# Altium schematic symbol library LimeMicroAltiumLib.SchLib: 659 symbols (part 19 of 22)
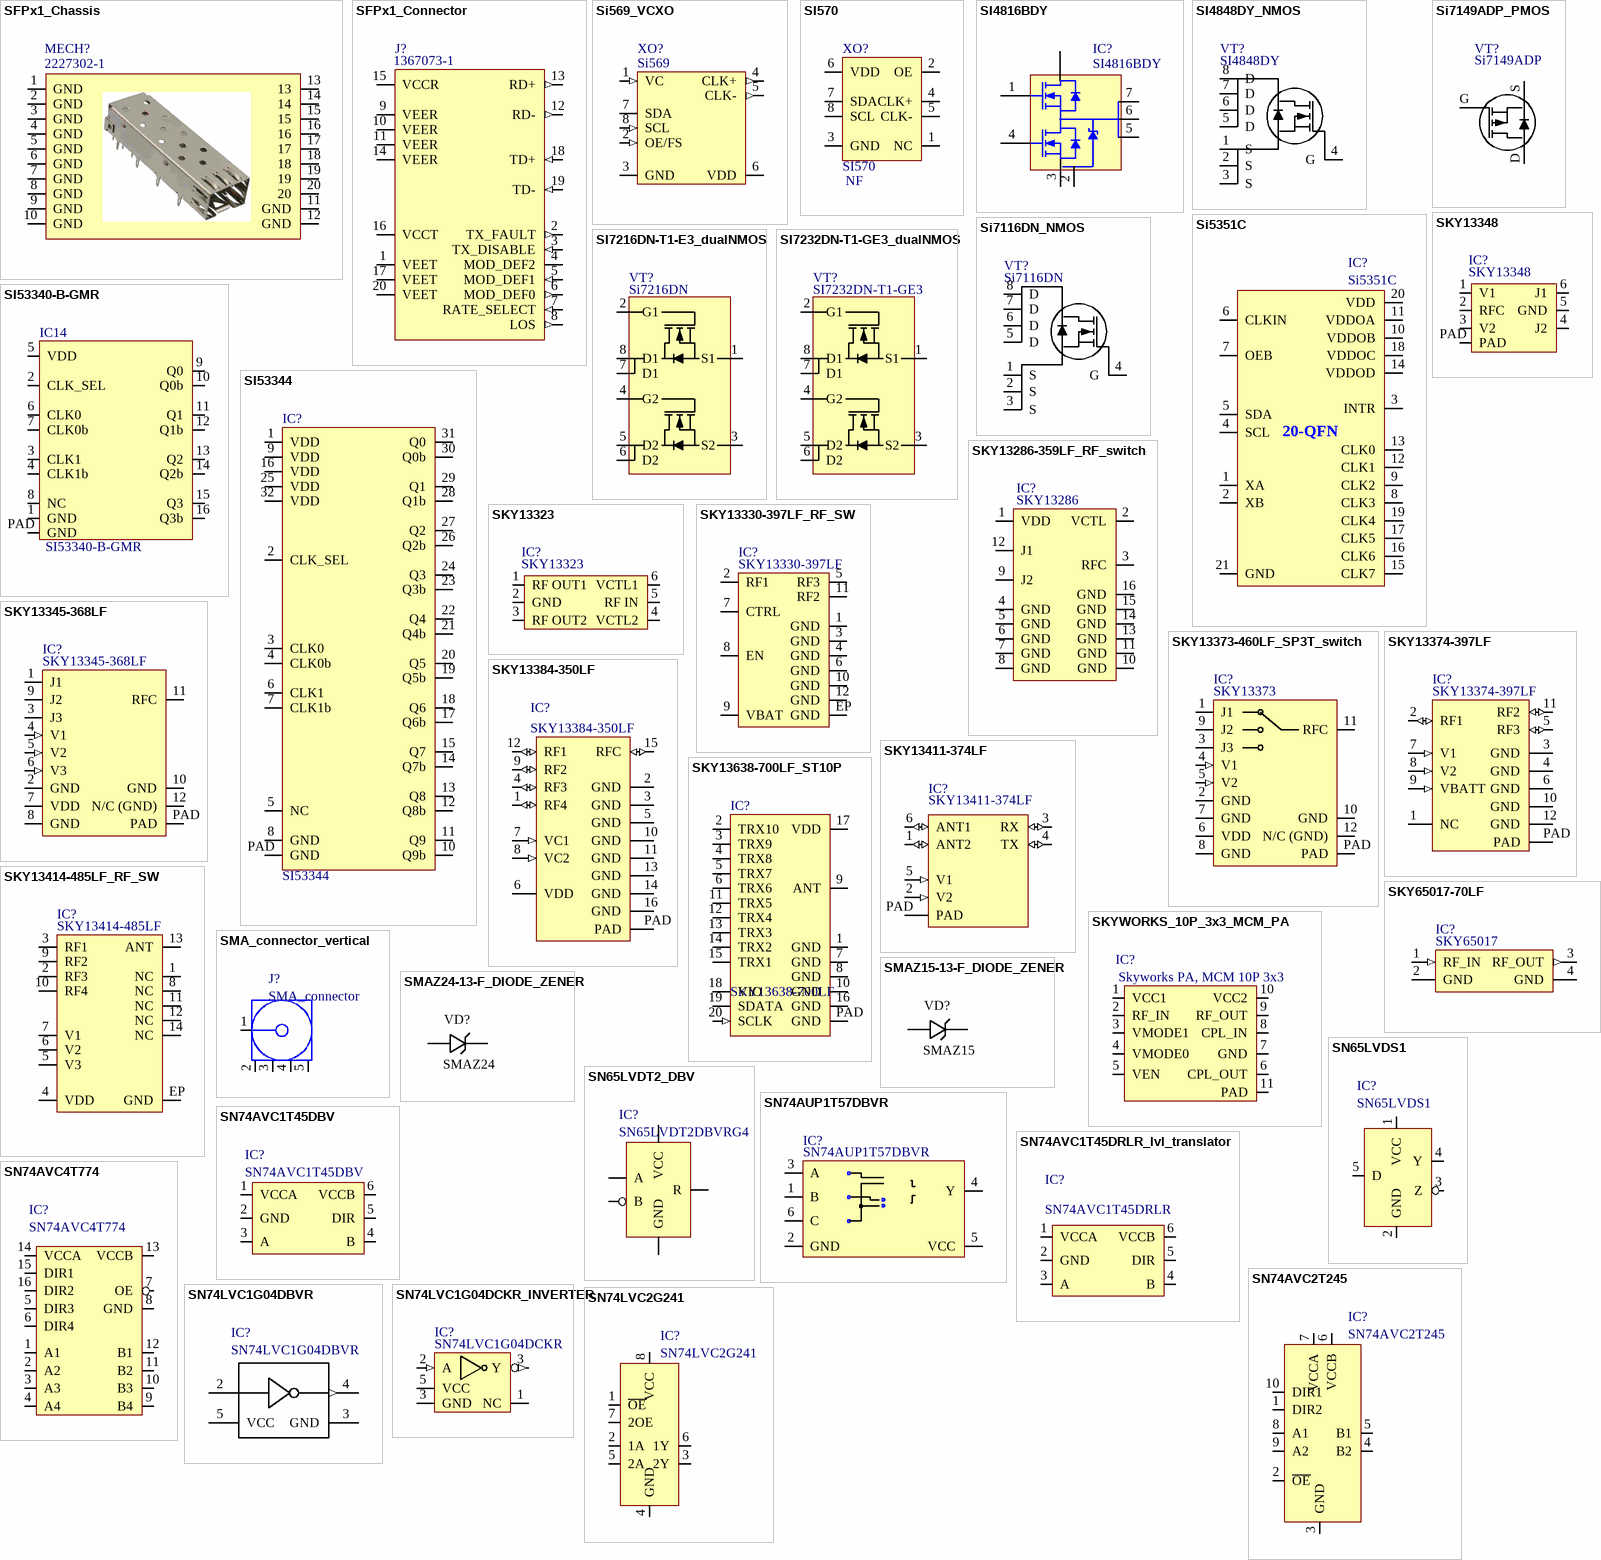
[diagram p96: symbols SFPx1_Chassis to SN74LVC2G241]

## SKY13374-397LF
designator IC?
Manufacturer: Skyworks Solutions Inc.; Part Description: IC SWITCH DPDT LF-6GHZ 12QFN; Frequency - Lower: 300kHz; Isolation @ Frequency: 28dB @ 3GHz (typ); Insertion Loss @ Frequency: 0.5dB @ 3GHz; IIP3: 68dBm (typ); Circuit: SPDT; P1dB: 39dBm (typ) IP1dB; Impedance: 50 Ohm; Voltage - Supply: 2.5 V ~ 4.8 V; RF Type: 802.11a/b/g/n; Supplier 1: Digi-Key; Manufacturer Part Number 1: SKY13374-397LF; RoHS: RoHS Compliant; Category: RF/IF and RFID; Stock 1: 22830; Pricing 1: 1=0.92, 10=0.826, 100=0.6437, 500=0.53172, 1000=0.41978 (USD); Packaging: Cut Tape (CT); Part Status: Active; Topology: -; Features: -; Operating Temperature: -40°C ~ 85°C; Package / Case: 12-UFQFN Exposed Pad; Supplier Device Package: 12-QFN (2x2); ComponentLink1URL: http://www.skyworksinc.com/uploads/documents/SKY13374_397LF_201447K.pdf; ComponentLink1Description: http://www.skyworksinc.com/uploads/documents/SKY13374_397LF_201447K.pdf; Supplier Part Number 1: 863-1523-1-ND
footprint SKY13374-397LF_QFN12 (Footprint not found)
pins: 1 NC, 2 RF1 (io), 3 GND, 4 GND, 5 RF3 (io), 6 GND, 7 V1 (in), 8 V2 (in), 9 VBATT (in), 10 GND, 11 RF2 (io), 12 GND, PAD

## SKY13384-350LF
designator IC?
Manufacturer: Skyworks Solutions Inc.; Part Description: RF Switch IC General Purpose SP4T 50 Ohm 16-QFN (3x3); Frequency - Lower: 20MHz; Isolation @ Frequency: 36dB @ 4GHz (typ); Insertion Loss @ Frequency: 1.2dB @ 4GHz; IIP3: 51dBm (typ); Topology: Absorptive; Circuit: SP4T; P1dB: 30dBm (typ) IP1dB; Impedance: 50 Ohm; Voltage - Supply: 3 V ~ 5 V; RF Type: General Purpose; Supplier 1: Digi-Key; Manufacturer Part Number 1: SKY13384-350LF; RoHS: RoHS Compliant; Category: RF/IF and RFID; Stock 1: 34816; Pricing 1: 1=4.67, 10=4.194, 100=3.4364, 500=2.92538, 1000=2.46719 (USD); Packaging: Cut Tape (CT); Part Status: Active; Features: -; Operating Temperature: -40°C ~ 85°C; Package / Case: 16-WFQFN Exposed Pad; Supplier Device Package: 16-QFN (3x3); ComponentLink1URL: http://www.skyworksinc.com/uploads/documents/SKY13384_350LF_201529C.pdf; ComponentLink1Description: http://www.skyworksinc.com/uploads/documents/SKY13384_350LF_201529C.pdf; Supplier Part Number 1: 863-1456-1-ND
footprint SKY13384-350LF_QFN16
pins: 1 RF4 (io), 2 GND, 3 GND, 4 RF3 (io), 5 GND, 6 VDD (power), 7 VC1 (in), 8 VC2 (in), 9 RF2 (io), 10 GND, 11 GND, 12 RF1 (io), 13 GND, 14 GND, 15 RFC (io), 16 GND, PAD

## SKY13411-374LF
designator IC?
Manufacturer: Skyworks Solutions Inc.; Part Description: RF Switch IC 802.11a/b/g/n DPDT 50 Ohm 6-MLPD (1.5x1.5); Frequency - Lower: 100MHz; Isolation @ Frequency: 14dB @ 6GHz (typ); Insertion Loss @ Frequency: 0.9dB @ 6GHz; IIP3: 50dBm (typ); Topology: Reflective; Circuit: DPDT; P1dB: 30dBm (typ) IP1dB; Impedance: 50 Ohm; RF Type: 802.11a/b/g/n; Supplier 1: Digi-Key; Manufacturer Part Number 1: SKY13411-374LF; RoHS: RoHS Compliant; Category: RF/IF and RFID; Stock 1: 18782; Pricing 1: 1=0.88, 10=0.782, 100=0.6099, 500=0.50382, 1000=0.39776 (USD); Packaging: Cut Tape (CT); Part Status: Active; Features: -; Operating Temperature: -40°C ~ 85°C; Voltage - Supply: -; Package / Case: 6-XFDFN Exposed Pad; Supplier Device Package: 6-MLPD (1.5x1.5); ComponentLink1URL: http://www.skyworksinc.com/uploads/documents/201665B.pdf; ComponentLink1Description: http://www.skyworksinc.com/uploads/documents/201665B.pdf; Supplier Part Number 1: 863-1455-1-ND
footprint SKY13411-374LF
pins: 1 ANT2 (io), 2 V2 (in), 3 RX (io), 4 TX (io), 5 V1 (in), 6 ANT1 (io), PAD

## SKY13414-485LF_RF_SW
designator IC?, comment SKY13414-485LF
Part Description: RF Switch IC General Purpose SP4T 3 GHz 50Ohm 14-QFN (2x2); Manufacturer: Skyworks Solutions; P1dB: 37dBm; Impedance: 50R; Throw Configuration: SP4T; IIP3: 70dBm; Supplier 1: Digi-Key; Supplier Part Number 1: 863-1582-1-ND; Manufacturer Part Number 1: SKY13414-485LF; Stock 1: 43522; Pricing 1: 1=1,35000, 10=1,20700, 25=1,14520, 100=0,94070, 250=0,87936, 500=0,77710, 1000=0,61350 (USD); RoHS: Yes; Case/Package: QFN; Min Operating Temperature: -40°C; Max Operating Temperature: 85°C; Packaging: Tape and Reel; Package Quantity: 3000; RoHS Compliant: Yes; ComponentLink1URL: https://datasheet.ciiva.com/15309/sky13414-485lf-201689g-231640-15309794.pdf?src-supplier=Mouser; ComponentLink1Description: https://datasheet.ciiva.com/15309/sky13414-485lf-201689g-231640-15309794.pdf?src-supplier=Mouser
footprint SKY13414-485LF_RF_SW_QFN14
pins: 1 NC, 2 RF3, 3 RF1, 4 VDD (power), 5 V3 (power), 6 V2 (power), 7 V1 (power), 8 NC, 9 RF2, 10 RF4, 11 NC, 12 NC, 13 ANT, 14 NC, EP GND (power)

## SKY13638-700LF_ST10P
designator IC?, comment SKY13638-700LF
Manufacturer: Skyworks Solutions; Part Description: MIPI SP10T LTE Tx/Rx; Value: SKY13638-700LF; Supplier 1: Digikey; Manufacturer Part Number 1: SKY13638-700LF; Stock 1: 9838; Pricing 1: 1=4,02, 10=2,589, 25=2,2152, 100=1,7923, 250=1,5846, 500=1,45684, 1000=1,34983 (USD); RoHS: No; ComponentLink1URL: http://www.skyworksinc.com/uploads/documents/SKY13638_700LF_204813A_PS.pdf?src-supplier=Digikey; ComponentLink1Description: http://www.skyworksinc.com/uploads/documents/SKY13638_700LF_204813A_PS.pdf?src-supplier=Digikey; Supplier Part Number 1: 863-2058-1-ND
footprint SKY13638-700LF (QFN, 20-Leads, Body 4,00x4,00mm, Pitch 0,50mm, Thermal Pad 2,70x2,70mm, IPC Medium Density)
pins: 1 GND, 2 TRX10 (io), 3 TRX9 (io), 4 TRX8 (io), 5 TRX7 (io), 6 TRX6 (io), 7 GND, 8 GND, 9 ANT (io), 10 GND, 11 TRX5 (io), 12 TRX4 (io), 13 TRX3 (io), 14 TRX2 (io), 15 TRX1 (io), 16 GND, 17 VDD, 18 VIO, 19 SDATA (io), 20 SCLK (in), PAD GND

## SKY65017-70LF
designator IC?, comment SKY65017
Manufacturer: Skyworks Solutions Inc.; Manufacturer Part Number 1: SKY65017-70LF; Part Description: RF Amplifier IC DBS, HLAN, WLAN 0.1Hz ~ 6GHz SOT-89-3; Frequency: 0.1Hz ~ 6GHz; P1dB: 20dBm (100mW); Gain: 20dB; Noise Figure: 5dB; RF Type: DBS, HLAN, WLAN; Voltage - Supply: 4.5 V ~ 5.5 V; Current - Supply: 120mA; Test Frequency: 2GHz; Supplier 1: Digi-Key; RoHS: RoHS Compliant; Category: RF/IF and RFID; Stock 1: 9533; Pricing 1: 1=3, 10=2.683, 25=2.4144, 100=2.1999, 250=1.98524, 500=1.78134 (USD); Packaging: Cut Tape (CT); Part Status: Active; Package / Case: TO-243AA; Supplier Device Package: SOT-89-3; ComponentLink1URL: http://www.skyworksinc.com/uploads/documents/SKY65017_70LF_200528G.pdf; ComponentLink1Description: http://www.skyworksinc.com/uploads/documents/SKY65017_70LF_200528G.pdf; Supplier Part Number 1: 863-1063-1-ND
footprint SKY65017-70LF_SOT89 (Footprint not found)
pins: 1 RF_IN (in), 2 GND, 3 RF_OUT (out), 4 GND

## SKYWORKS_10P_3x3_MCM_PA
designator IC?, comment Skyworks PA, MCM 10P 3x3
footprint SKYWORKS_10PIN_MCM_3x3
pins: 1 VCC1 (power), 2 RF_IN (in), 3 VMODE1 (in), 4 VMODE0 (in), 5 VEN (in), 6 CPL_OUT (out), 7 GND, 8 CPL_IN (in), 9 RF_OUT (out), 10 VCC2 (power), 11 PAD

## SMA_connector_vertical
designator J?, comment SMA_connector
Supplier 1: Farnell; Supplier Part Number 1: 1206013
footprint SMA_connector_vertical
pins: 1 RF, 2 GND, 3 GND, 4 GND, 5 GND

## SMAZ15-13-F_DIODE_ZENER
designator VD?, comment SMAZ15
Part Description: Zener Diode 15V 1W ±5% Surface Mount SMA; Manufacturer Part Number 1: SMAZ15-13-F; Manufacturer: Diodes Incorporated; Supplier Part Number 1: SMAZ15-FDICT-ND; Supplier 1: Digi-Key
footprint SMAZ15-13-F_DIODE_ZENER_DO-214AC
pins: A, K

## SMAZ24-13-F_DIODE_ZENER
designator VD?, comment SMAZ24
Part Description: Zener Diode 24V 1W ±5% Surface Mount SMA; Manufacturer Part Number 1: SMAZ24-13-F; Manufacturer: Diodes Incorporated; Supplier Part Number 1: SMAZ24-FDICT-ND; Supplier 1: Digi-Key
footprint SMAZ15-13-F_DIODE_ZENER_DO-214AC
pins: A, K

## SN65LVDS1
designator IC?
Manufacturer: TEXAS INSTRUMENTS; Manufacturer Part Number 1: SN65LVDS1DBVR; Supply Voltage Min: 2.4; Supply Voltage Max: 3.6; No. of Pins: 5; Driver Case Style: SOT-23; Supplier 1: Newark; Supplier Part Number 1: 76C0715
footprint SOT23-5
pins: 1 VCC, 2 GND, 3 Z, 4 Y, 5 D

## SN65LVDT2_DBV
designator IC?, comment SN65LVDT2DBVRG4
Manufacturer: Texas Instruments; Voltage - Supply: 2.4 V ~ 3.6 V; Number of Drivers/Receivers: 0/1; Data Rate: 400Mbps; Protocol: LVDS; Supplier 1: Digi-Key; Category: Integrated Circuits (ICs); Type: Receiver; Manufacturer Part Number 1: SN65LVDT2DBVRG4; Packaging: Tape & Reel (TR); RoHS: RoHS Compliant; Supplier Device Package: SOT-23-5; Package / Case: SC-74A, SOT-753; Mounting Type: Surface Mount; Operating Temperature: -40°C ~ 85°C; Receiver Hysteresis: -; Duplex: -; Supplier Part Number 1: SN65LVDT2DBVRG4-ND
footprint SOT23-5
pins: 1 VCC, 2 GND, 3 A, 4 B, 5 R

## SN74AUP1T57DBVR
designator IC?
Manufacturer: Texas Instruments; Part Description: Voltage Level Translator Unidirectional 1 Circuit 1 Channel  SOT-23-6; Logic Function: Translator; Low Level Output Current: 4mA; High Level Output Current: -4mA; Quiescent Current: 500nA; Propagation Delay: 3.8ns; Max Supply Voltage: 3.6V; Min Supply Voltage: 2.3V; Number of Channels: 3; Number of Bits: 1; Turn-On Delay Time: 10ns; Nominal Supply Current: 900nA; Output Type: Voltage; Supplier 1: Digi-Key; Manufacturer Part Number 1: SN74AUP1T57DBVR; Stock 1: 7961; Pricing 1: 1 = 0,51000, 10 = 0,44000, 100 = 0,32880, 500 = 0,25832, 1000 = 0,19961 (USD); RoHS: Yes; Mount: Surface Mount; Case/Package: SOT-23; Number of Pins: 6; Weight: 0.000229oz; Min Operating Temperature: -40°C; Max Operating Temperature: 85°C; Packaging: Tape and Reel; Output Current: 4mA; Package Quantity: 1; Number of Outputs: 1; Number of Inputs: 3; Radiation Hardening: No; Lead Free: Lead Free; REACH SVHC: No SVHC; ComponentLink1URL: https://datasheet.ciiva.com/1508/1775223-1508800.pdf?src-supplier=Element14; ComponentLink1Description: https://datasheet.ciiva.com/1508/1775223-1508800.pdf?src-supplier=Element14; ComponentLink2URL: https://datasheet.ciiva.com/15096/getdatasheetpartid-293621-15096261.pdf?src-supplier=Verical; ComponentLink2Description: https://datasheet.ciiva.com/15096/getdatasheetpartid-293621-15096261.pdf?src-supplier=Verical; ComponentLink3URL: https://datasheet.ciiva.com/1899/sn74aup1t57-1899465.pdf?src-supplier=Digi-Key; ComponentLink3Description: https://datasheet.ciiva.com/1899/sn74aup1t57-1899465.pdf?src-supplier=Digi-Key; ComponentLink4URL: https://datasheet.ciiva.com/1899/sn74aup1t57-1899466.pdf?src-supplier=Digi-Key; ComponentLink4Description: https://datasheet.ciiva.com/1899/sn74aup1t57-1899466.pdf?src-supplier=Digi-Key; ComponentLink5URL: https://datasheet.ciiva.com/1899/sn74aup1t57-1899467.pdf?src-supplier=Digi-Key; ComponentLink5Description: https://datasheet.ciiva.com/1899/sn74aup1t57-1899467.pdf?src-supplier=Digi-Key; ComponentLink6URL: https://datasheet.ciiva.com/14287/sn74aup1t57-14287935.pdf?src-supplier=Avnet; ComponentLink6Description: https://datasheet.ciiva.com/14287/sn74aup1t57-14287935.pdf?src-supplier=Avnet; Supplier Part Number 1: 296-17524-1-ND
footprint SOT23-6
pins: 1 B, 2 GND, 3 A, 4 Y, 5 VCC (power), 6 C

## SN74AVC1T45DBV
designator IC?
Manufacturer: Texas Instruments; Data Rate: 500Mbps; Voltage - Supply: 1.2 V ~ 3.6 V; Supplier 1: Digi-Key; Category: Integrated Circuits (ICs); Package / Case: SOT-23-6; Supplier Part Number: 296-19094-1-ND
footprint SOT23-6
pins: 1 VCCA (power), 2 GND, 3 A (io), 4 B (io), 5 DIR (in), 6 VCCB (power)

## SN74AVC1T45DRLR_lvl_translator
designator IC?, comment SN74AVC1T45DRLR
Part Description: Voltage Level Translator Bidirectional 1 Circuit 1 Channel 500Mbps SOT-5X3; Manufacturer: Texas Instruments; Supplier 1: Digi-Key; Supplier Part Number 1: 296-21022-1-ND; Manufacturer Part Number 1: SN74AVC1T45DRLR; Stock 1: 46610; Pricing 1: 1=0,68, 10=0,6, 25=0,5636, 100=0,46, 250=0,42724, 500=0,3636, 1000=0,29088 (USD); RoHS: Yes; Length: 1.6mm; Width: 1.2mm; Height: 600um; Thickness: 550um; ComponentLink1URL: https://datasheet.ciiva.com/1629/sn74avc1t45-1629536.pdf?src-supplier=Newark; ComponentLink1Description: https://datasheet.ciiva.com/1629/sn74avc1t45-1629536.pdf?src-supplier=Newark; ComponentLink2URL: https://datasheet.ciiva.com/15086/getdatasheetpartid-223729-15086386.pdf?src-supplier=Verical; ComponentLink2Description: https://datasheet.ciiva.com/15086/getdatasheetpartid-223729-15086386.pdf?src-supplier=Verical; ComponentLink3URL: https://datasheet.ciiva.com/14287/sn74avc1t45-14287328.pdf?src-supplier=Avnet; ComponentLink3Description: https://datasheet.ciiva.com/14287/sn74avc1t45-14287328.pdf?src-supplier=Avnet; ComponentLink4URL: https://datasheet.ciiva.com/22729/1862374-22729941.pdf?src-supplier=Element14; ComponentLink4Description: https://datasheet.ciiva.com/22729/1862374-22729941.pdf?src-supplier=Element14; ComponentLink5URL: https://datasheet.ciiva.com/46385/1887534-46385799.pdf?src-supplier=Element14; ComponentLink5Description: https://datasheet.ciiva.com/46385/1887534-46385799.pdf?src-supplier=Element14; ComponentLink6URL: https://datasheet.ciiva.com/14287/sn74avc1t45-14287479.pdf?src-supplier=Avnet; ComponentLink6Description: https://datasheet.ciiva.com/14287/sn74avc1t45-14287479.pdf?src-supplier=Avnet; ComponentLink7URL: https://datasheet.ciiva.com/1899/sn74avc1t45-1899278.pdf?src-supplier=Digi-Key; ComponentLink7Description: https://datasheet.ciiva.com/1899/sn74avc1t45-1899278.pdf?src-supplier=Digi-Key; ComponentLink8URL: https://datasheet.ciiva.com/1899/sn74avc1t45-1899279.pdf?src-supplier=Digi-Key; ComponentLink8Description: https://datasheet.ciiva.com/1899/sn74avc1t45-1899279.pdf?src-supplier=Digi-Key; ComponentLink9URL: https://datasheet.ciiva.com/1899/sn74avc1t45-1899280.pdf?src-supplier=Digi-Key; ComponentLink9Description: https://datasheet.ciiva.com/1899/sn74avc1t45-1899280.pdf?src-supplier=Digi-Key
footprint SN74AVC1T45DRLR_SOT-5X3
pins: 1 VCCA (power), 2 GND, 3 A (io), 4 B (io), 5 DIR (in), 6 VCCB (power)

## SN74AVC2T245
designator IC?
Input Type: Logic; Logic Function: Translator, Bidirectional, 3-State; Data Rate: 500Mbps; Propagation Delay (Max): 2.4ns; Voltage - Supply: 1.2 V ~ 3.6 V; Supplier 1: Digi-Key; Category: Integrated Circuits (ICs); Supplier Device Package: 10-UQFN (1.8x1.4); Package / Case: 10-UFQFN; Supplier Part Number: 296-23684-1-ND
footprint SN74AVC2T245RSWR (PQFN, 10-Leads, Body 1,80x1,40mm, Pitch 0,40mm, IPC Medium Density)
pins: 1 DIR2, 2 ~{OE}, 3 GND, 4 B2, 5 B1, 6 VCCB, 7 VCCA, 8 A1, 9 A2, 10 DIR1

## SN74AVC4T774
designator IC?
Manufacturer: Texas Instruments; Manufacturer Part Number 1: SN74AVC4T774RSVR; Logic Function: Translator, Bidirectional, 3-State; Differential - Input:Output: No/No; Propagation Delay (Max): 2.4ns; Number of Bits: 4; Number of Outputs/Channel: 1; Input Type: Logic; Voltage - Supply: 1.2 V ~ 3.6 V; Data Rate: 380Mbps; Supplier 1: Digi-Key; Supplier Device Package: 16-UQFN (2.6x1.8); Packaging: Digi-Reel®; Category: Integrated Circuits (ICs); Mounting Type: Surface Mount; RoHS: RoHS Compliant; Number of Channels: 4; Output Type: Logic; Package / Case: 16-UFQFN; Operating Temperature: -40°C ~ 85°C; Supplier Part Number 1: 296-24741-6-ND
footprint SN74AVC4T774 (PQFN, 16-Leads, Body 2,60x1,80mm, Pitch 0,40mm, IPC Medium Density)
pins: 1 A1, 2 A2, 3 A3, 4 A4, 5 DIR3, 6 DIR4, 7 OE, 8 GND, 9 B4, 10 B3, 11 B2, 12 B1, 13 VCCB, 14 VCCA, 15 DIR1, 16 DIR2

## SN74LVC1G04DBVR
designator IC?
Manufacturer: Texas Instruments; Number of Inputs: 1; Voltage - Supply: 1.65 V ~ 5.5 V; Current - Quiescent (Max): 10µA; Current - Output High, Low: 32mA, 32mA; Max Propagation Delay @ V, Max CL: 3.7ns @ 5V, 50pF; Logic Level - High: 1.7 V ~ 2 V; Logic Level - Low: 0.7 V ~ 0.8 V; Logic Type: Inverter; Supplier 1: Digi-Key; RoHS: RoHS Compliant; Number of Circuits: 1; Mounting Type: Surface Mount; Supplier Device Package: SOT-23-5; Manufacturer Part Number 1: SN74LVC1G04DBVR; Operating Temperature: -40°C ~ 125°C; Packaging: Digi-Reel®; Features: -; Package / Case: SC-74A, SOT-753; Category: Integrated Circuits (ICs); Supplier Part Number 1: 296-11599-6-ND
footprint SOT23-5
pins: 2 A, 3 GND (power), 4 Y (out), 5 VCC (power)

## SN74LVC1G04DCKR_INVERTER
designator IC?, comment SN74LVC1G04DCKR
Manufacturer: Texas Instruments; Part Description: IC INVERTER 1CH 1-INP SC70-5; Logic Function: Buffer; Number of Elements: 1; Max Output Current: 32mA; Min Supply Voltage: 1.65V; Max Supply Voltage: 5.5V; Propagation Delay: 3.7ns; Quiescent Current: 10uA; High Level Output Current: -32mA; Turn-On Delay Time: 7.5ns; Schmitt Trigger Input: No; Supplier 1: Digi-Key; Manufacturer Part Number 1: SN74LVC1G04DCKR; Stock 1: 107004; Pricing 1: 1 = 0,43000, 10 = 0,32000, 100 = 0,19960, 500 = 0,13658, 1000 = 0,10506 (USD); RoHS: Yes; Mount: Surface Mount; Case/Package: SC; Number of Pins: 5; Weight: 8.8E-05oz; Min Operating Temperature: -40°C; Max Operating Temperature: 125°C; Output Current: 32mA; Number of Inputs: 1; Packaging: Tape and Reel; Package Quantity: 1; Number of Circuits: 1; Low Level Output Current: 32mA; Termination: SMD/SMT; Number of Gates: 1; Number of Bits: 1; Length: 2.15mm; Height: 1mm; Width: 1.4mm; Radiation Hardening: No; REACH SVHC: No SVHC; Lead Free: Lead Free; ComponentLink1URL: https://datasheet.ciiva.com/7783/1740531-7783427.pdf?src-supplier=Element14; ComponentLink1Description: https://datasheet.ciiva.com/7783/1740531-7783427.pdf?src-supplier=Element14; ComponentLink2URL: https://datasheet.ciiva.com/34301/918241-34301765.pdf?src-supplier=Jameco; ComponentLink2Description: https://datasheet.ciiva.com/34301/918241-34301765.pdf?src-supplier=Jameco; ComponentLink3URL: https://datasheet.ciiva.com/15089/getdatasheetpartid-190001-15089352.pdf?src-supplier=Verical; ComponentLink3Description: https://datasheet.ciiva.com/15089/getdatasheetpartid-190001-15089352.pdf?src-supplier=Verical; ComponentLink4URL: https://datasheet.ciiva.com/46384/1887466-46384379.pdf?src-supplier=Element14; ComponentLink4Description: https://datasheet.ciiva.com/46384/1887466-46384379.pdf?src-supplier=Element14; ComponentLink5URL: https://datasheet.ciiva.com/1864/sn74lvc1g04-1864156.pdf?src-supplier=Digi-Key; ComponentLink5Description: https://datasheet.ciiva.com/1864/sn74lvc1g04-1864156.pdf?src-supplier=Digi-Key; ComponentLink6URL: https://datasheet.ciiva.com/1864/sn74lvc1g04-1864157.pdf?src-supplier=Digi-Key; ComponentLink6Description: https://datasheet.ciiva.com/1864/sn74lvc1g04-1864157.pdf?src-supplier=Digi-Key; ComponentLink7URL: https://datasheet.ciiva.com/1864/sn74lvc1g04-1864155.pdf?src-supplier=Digi-Key; ComponentLink7Description: https://datasheet.ciiva.com/1864/sn74lvc1g04-1864155.pdf?src-supplier=Digi-Key; ComponentLink8URL: https://datasheet.ciiva.com/26044/sn74lvc1g04-26044125.pdf?src-supplier=Avnet+Europe; ComponentLink8Description: https://datasheet.ciiva.com/26044/sn74lvc1g04-26044125.pdf?src-supplier=Avnet+Europe; ComponentLink9URL: https://datasheet.ciiva.com/14290/sn74lvc1g04-14290303.pdf?src-supplier=Avnet; ComponentLink9Description: https://datasheet.ciiva.com/14290/sn74lvc1g04-14290303.pdf?src-supplier=Avnet; ComponentLink10URL: https://datasheet.ciiva.com/48703/001074510-da-01-en-ic-single-in-sn74lvc1g04dckr-sc-70-5-tid-48703803.pdf?src-supplier=Conrad; ComponentLink10Description: https://datasheet.ciiva.com/48703/001074510-da-01-en-ic-single-in-sn74lvc1g04dckr-sc-70-5-tid-48703803.pdf?src-supplier=Conrad; Supplier Part Number 1: 296-11600-1-ND
footprint SC-70-5_SN74LVC1G04DCKR (SC-70 (SOT323), 5 pin)
pins: 1 NC, 2 A (in), 3 Y (out), 3 GND, 5 VCC

## SN74LVC2G241
designator IC?
Logic Type: Buffer/Line Driver, Non-Inverting; Current - Output High, Low: 32mA, 32mA; Voltage - Supply: 1.65 V ~ 5.5 V; Supplier 1: Digi-Key; Package / Case: 8-LSSOP (0.11", 2.80mm Width); Category: Integrated Circuits (ICs); Mounting Type: Surface Mount; Supplier Part Number: 296-11935-1-ND
footprint SN74LVC2G241 (TSOP, 8-Leads, Body 2,95x2,80mm, Pitch 0,65mm, IPC Medium Density)
pins: 1 ~{OE}, 2 1A, 3 2Y, 4 GND, 5 2A, 6 1Y, 7 2OE, 8 VCC

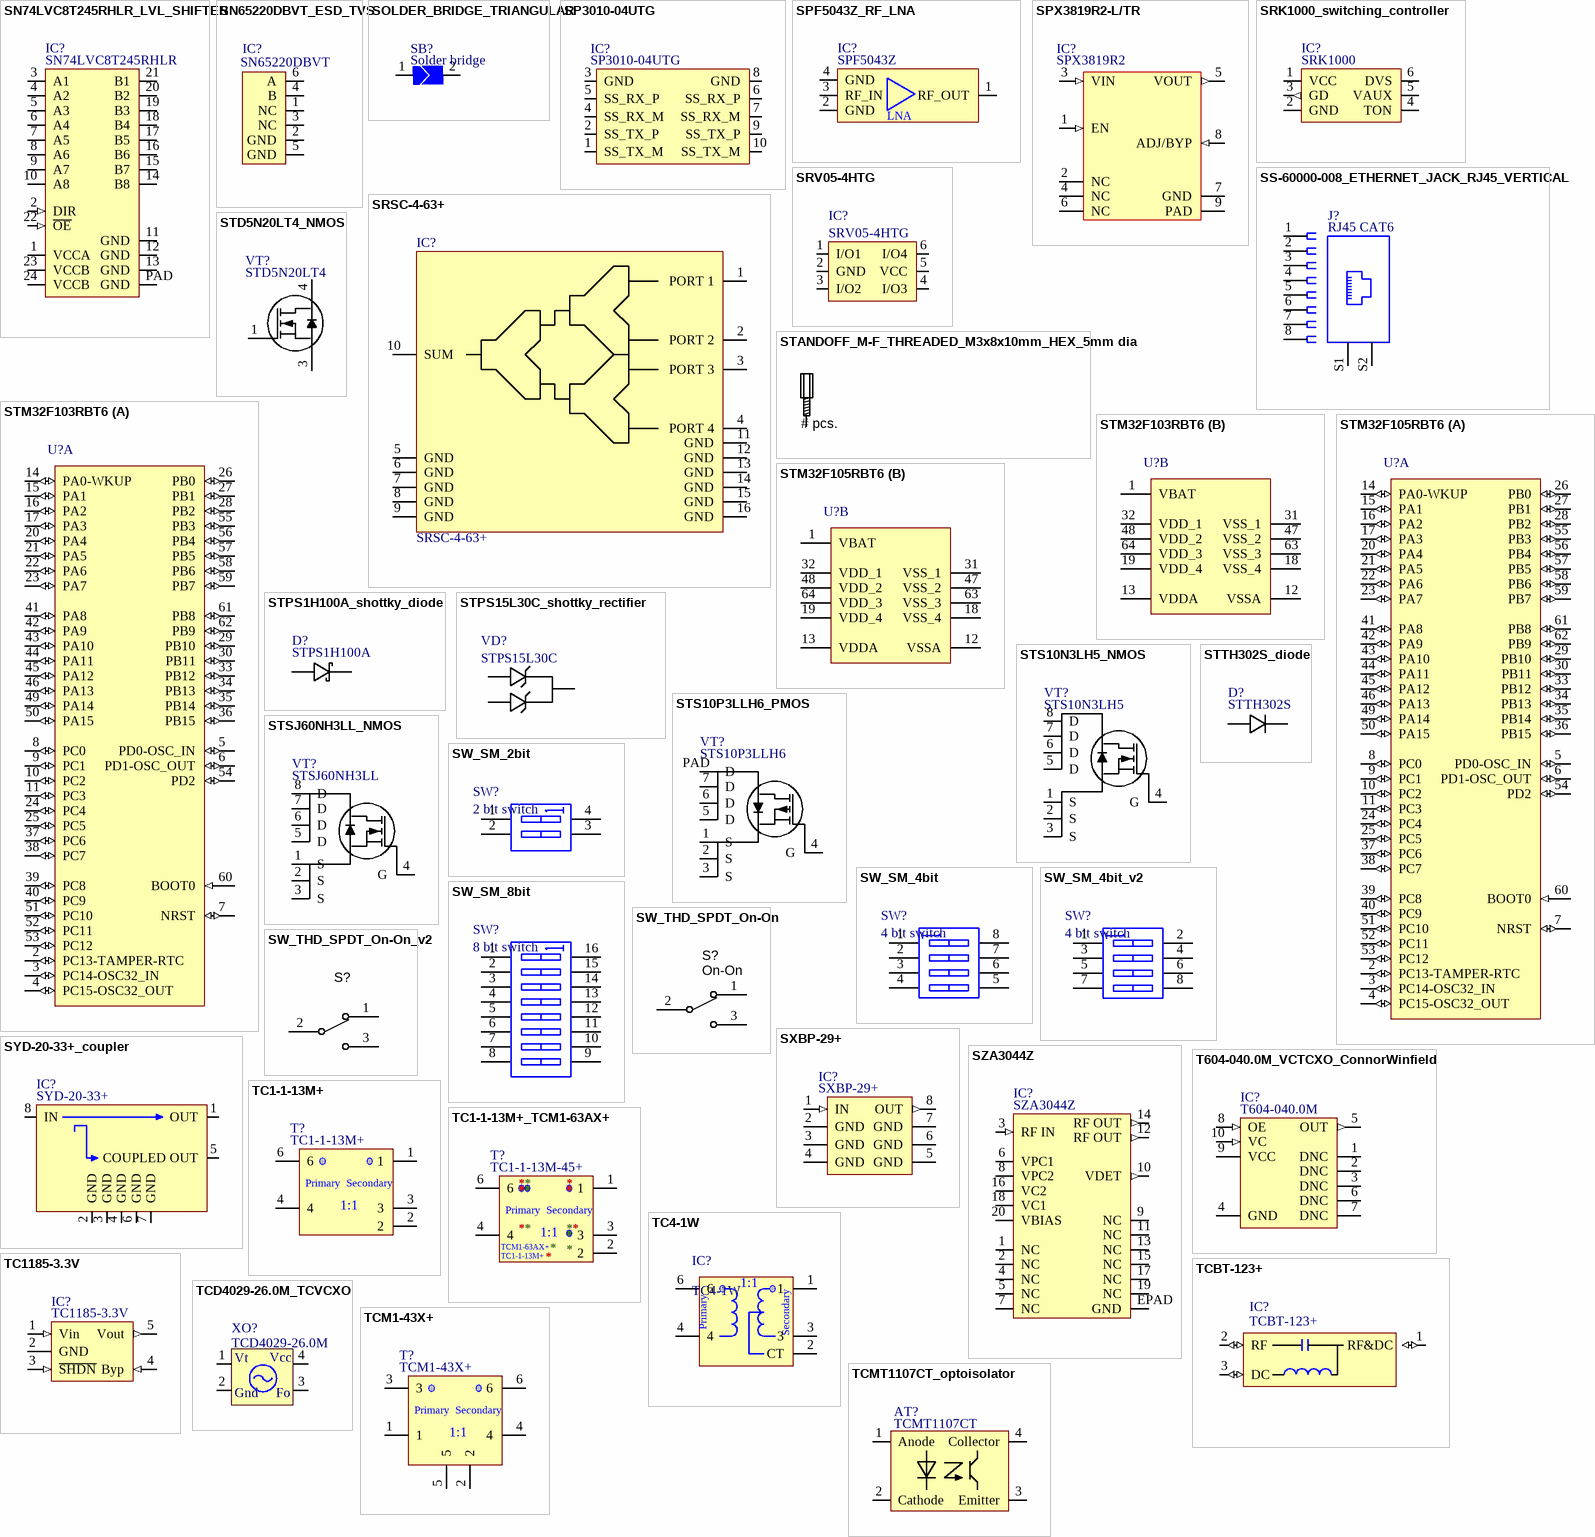
[diagram p67: symbols SN74LVC8T245RHLR_LVL_SHIFTER to TCMT1107CT_optoisolator]

## SN74LVC8T245RHLR_LVL_SHIFTER
designator IC?, comment SN74LVC8T245RHLR
Manufacturer: Texas Instruments; Part Description: Voltage Level Translator Bidirectional 1 Circuit 8 Channel  24-VQFN (5.5x3.5); Direction: Bidirectional; Number of Elements: 1; Propagation Delay: 4.3ns; Max Supply Voltage: 5.5V; Min Supply Voltage: 1.65V; Number of Inputs: 8; Output Current: 32mA; Logic Function: Translator; Turn-On Delay Time: 4.2ns; Data Rate: 500Mbps; Polarity: Non-Inverting; High Level Output Current: -32mA; Quiescent Current: 15uA; Supplier 1: Digi-Key; Manufacturer Part Number 1: SN74LVC8T245RHLR; Stock 1: 27446; Pricing 1: 1=1,38000, 10=1,23700, 100=0,96420, 500=0,79650 (USD); RoHS: Yes; Mount: Surface Mount; Case/Package: VQFN; Number of Pins: 24; Weight: 0.001767oz; Contact Plating: Gold; Min Operating Temperature: -40°C; Max Operating Temperature: 85°C; Packaging: Tape and Reel; Package Quantity: 1; Number of Channels: 8; Number of Bits: 8; Low Level Output Current: 32mA; Number of Outputs: 8; Nominal Supply Current: 15uA; Length: 5.65mm; Height: 0.95mm; Width: 3.65mm; Radiation Hardening: No; REACH SVHC: No SVHC; Lead Free: Lead Free; ComponentLink1URL: https://datasheet.ciiva.com/14315/sces584a-14315712.pdf?src-supplier=Farnell; ComponentLink1Description: https://datasheet.ciiva.com/14315/sces584a-14315712.pdf?src-supplier=Farnell; ComponentLink2URL: https://datasheet.ciiva.com/1628/sn74lvc8t245-1628896.pdf?src-supplier=Newark; ComponentLink2Description: https://datasheet.ciiva.com/1628/sn74lvc8t245-1628896.pdf?src-supplier=Newark; ComponentLink3URL: https://datasheet.ciiva.com/15086/getdatasheetpartid-245666-15086422.pdf?src-supplier=Verical; ComponentLink3Description: https://datasheet.ciiva.com/15086/getdatasheetpartid-245666-15086422.pdf?src-supplier=Verical; ComponentLink4URL: https://datasheet.ciiva.com/1508/1882283-1508817.pdf?src-supplier=Element14; ComponentLink4Description: https://datasheet.ciiva.com/1508/1882283-1508817.pdf?src-supplier=Element14; ComponentLink5URL: https://datasheet.ciiva.com/1508/1831204-1508707.pdf?src-supplier=Element14; ComponentLink5Description: https://datasheet.ciiva.com/1508/1831204-1508707.pdf?src-supplier=Element14; ComponentLink6URL: https://datasheet.ciiva.com/1899/sn74lvc8t245-1899443.pdf?src-supplier=Digi-Key; ComponentLink6Description: https://datasheet.ciiva.com/1899/sn74lvc8t245-1899443.pdf?src-supplier=Digi-Key; ComponentLink7URL: https://datasheet.ciiva.com/1899/sn74lvc8t245-1899445.pdf?src-supplier=Digi-Key; ComponentLink7Description: https://datasheet.ciiva.com/1899/sn74lvc8t245-1899445.pdf?src-supplier=Digi-Key; ComponentLink8URL: https://datasheet.ciiva.com/1508/1831204-1508706.pdf?src-supplier=Element14; ComponentLink8Description: https://datasheet.ciiva.com/1508/1831204-1508706.pdf?src-supplier=Element14; ComponentLink9URL: https://datasheet.ciiva.com/1899/sn74lvc8t245-1899444.pdf?src-supplier=Digi-Key; ComponentLink9Description: https://datasheet.ciiva.com/1899/sn74lvc8t245-1899444.pdf?src-supplier=Digi-Key; ComponentLink10URL: https://datasheet.ciiva.com/14298/sn74lvc8t245-14298297.pdf?src-supplier=Avnet; ComponentLink10Description: https://datasheet.ciiva.com/14298/sn74lvc8t245-14298297.pdf?src-supplier=Avnet; ComponentLink11URL: https://datasheet.ciiva.com/14298/sn74lvc8t245-14298299.pdf?src-supplier=Avnet; ComponentLink11Description: https://datasheet.ciiva.com/14298/sn74lvc8t245-14298299.pdf?src-supplier=Avnet; ComponentLink12URL: https://datasheet.ciiva.com/46395/1882283-46395885.pdf?src-supplier=Element14; ComponentLink12Description: https://datasheet.ciiva.com/46395/1882283-46395885.pdf?src-supplier=Element14; ComponentLink13URL: https://datasheet.ciiva.com/25970/sn74lvc8t245-25970223.pdf?src-supplier=Avnet+Europe; ComponentLink13Description: https://datasheet.ciiva.com/25970/sn74lvc8t245-25970223.pdf?src-supplier=Avnet+Europe; ComponentLink14URL: https://datasheet.ciiva.com/48703/001073805-da-01-en-ic-bus-trans-sn74lvc8t245rhlr-qfn-24-tid-48703067.pdf?src-supplier=Conrad; ComponentLink14Description: https://datasheet.ciiva.com/48703/001073805-da-01-en-ic-bus-trans-sn74lvc8t245rhlr-qfn-24-tid-48703067.pdf?src-supplier=Conrad; Supplier Part Number 1: 296-18595-1-ND
footprint SN74LVC8T245RHLR_24-VQFN_LVL_SHIFTER
pins: 1 VCCA (power), 2 DIR (in), 3 A1 (io), 4 A2 (io), 5 A3 (io), 6 A4 (io), 7 A5 (io), 8 A6 (io), 9 A7 (io), 10 A8 (io), 11 GND, 12 GND, 13 GND, 14 B8 (io), 15 B7 (io), 16 B6 (io), 17 B5 (io), 18 B4 (io), 19 B3 (io), 20 B2 (io), 21 B1 (io), 22 ~{OE} (in), 23 VCCB (power), 24 VCCB (power), PAD GND

## SN65220DBVT_ESD_TVS
designator IC?, comment SN65220DBVT
Part Description: ESD Suppressors / TVS Diodes Single USB Port; Manufacturer: Texas Instruments; Operating Supply Voltage: 6V; Capacitance: 35pF; Max Surge Current: 3A; Element Configuration: Single; Clamping Voltage: 7V; Number of Circuits: 1; Polarity: Unidirectional; Number of Channels: 2; Max Power Dissipation: 60W; Leakage Current: 1uA; Interface: USB; Max Breakdown Voltage: 8V; Current Rating: 1A; Power Dissipation: 385mW; Supplier 1: Digi-Key; Supplier Part Number 1: 296-2341-1-ND; Manufacturer Part Number 1: SN65220DBVT; Stock 1: 0; RoHS: Yes; Case/Package: SOT-23; Number of Pins: 6; Weight: 0.000473oz; Contact Plating: Gold; Min Operating Temperature: -40°C; Max Operating Temperature: 85°C; Packaging: Tape and Reel; Package Quantity: 250; Working Voltage: 6V; Breakdown Voltage: 7V; Termination: SMD/SMT; Min Breakdown Voltage: 7V; Length: 2.9mm; Width: 1.6mm; Height: 1.15mm; Depth: 1.75mm; Radiation Hardening: No; Lead Free: Lead Free; RoHS Compliant: Yes; REACH SVHC: No SVHC; ComponentLink1URL: https://datasheet.ciiva.com/1219/sn65240-1219728.pdf?src-supplier=Newark; ComponentLink1Description: https://datasheet.ciiva.com/1219/sn65240-1219728.pdf?src-supplier=Newark; ComponentLink2URL: https://datasheet.ciiva.com/361/sn75240-361335.pdf?src-supplier=Digi-Key; ComponentLink2Description: https://datasheet.ciiva.com/361/sn75240-361335.pdf?src-supplier=Digi-Key; ComponentLink3URL: https://datasheet.ciiva.com/361/sn75240-361334.pdf?src-supplier=Digi-Key; ComponentLink3Description: https://datasheet.ciiva.com/361/sn75240-361334.pdf?src-supplier=Digi-Key; ComponentLink4URL: https://datasheet.ciiva.com/361/sn75240-361336.pdf?src-supplier=Digi-Key; ComponentLink4Description: https://datasheet.ciiva.com/361/sn75240-361336.pdf?src-supplier=Digi-Key; ComponentLink5URL: https://datasheet.ciiva.com/7659/1847490-7659962.pdf?src-supplier=Element14; ComponentLink5Description: https://datasheet.ciiva.com/7659/1847490-7659962.pdf?src-supplier=Element14; ComponentLink6URL: https://datasheet.ciiva.com/14423/sn65240-14423674.pdf?src-supplier=Avnet; ComponentLink6Description: https://datasheet.ciiva.com/14423/sn65240-14423674.pdf?src-supplier=Avnet; ComponentLink7URL: https://datasheet.ciiva.com/14423/sn65240-14423725.pdf?src-supplier=Avnet; ComponentLink7Description: https://datasheet.ciiva.com/14423/sn65240-14423725.pdf?src-supplier=Avnet
footprint SOT23-6
pins: 1 NC, 2 GND (power), 3 NC, 4 B, 5 GND (power), 6 A

## SOLDER_BRIDGE_TRIANGULAR
designator SB?, comment Solder bridge
Can be shorted out using solder paste or 0402-1206 resistor; Part Description: *
footprint SOLDER_BRIDGE_TRIANGULAR
pins: 1, 2

## SP3010-04UTG
designator IC?
Manufacturer: Littelfuse Inc; Supplier 1: Digi-Key; Supplier: Digi-Key; Category: Circuit Protection; Supplier Device Package: 10-µDFN (2.5x1.0); Supplier Part Number: F3507TR-ND
pins: 1 SS_TX_M, 2 SS_TX_P, 3 GND, 4 SS_RX_M, 5 SS_RX_P, 6 SS_RX_P, 7 SS_RX_M, 8 GND, 9 SS_TX_P, 10 SS_TX_M

## SPF5043Z_RF_LNA
designator IC?, comment SPF5043Z
Part Description: RF Amplifier .05-4GHz SSG 12.9dB NF .8dB GaAs; Manufacturer: Qorvo; Supplier 1: Mouser; Supplier Part Number 1: 772-SPF5043Z; Manufacturer Part Number 1: SPF5043Z; Stock 1: 151851; Pricing 1: 1=3,68000, 10=3,68000, 50=2,67000, 100=2,17000, 1000=1,20000, 10000=1,06000 (USD); RoHS: Yes; RoHS Compliant: Yes
footprint SPF5043Z_SOT-343
pins: 1 RF_OUT, 2 GND, 3 RF_IN, 4 GND
text: LNA

## SPX3819R2-L/TR
designator IC?, comment SPX3819R2
Manufacturer: Exar Corporation; Manufacturer Part Number 1: SPX3819R2-L/TR; Part Description: Linear Voltage Regulator IC Positive Adjustable 1 Output Adjustable 500mA 8-DFN (2x3); Regulator Topology: Positive Adjustable; Voltage - Output: Adjustable; Current - Output: 500mA; Voltage - Dropout (Typical): 0.34V @ 500mA; Number of Regulators: 1; Voltage - Input: 2.5 V ~ 16 V; Supplier 1: Digi-Key; RoHS: RoHS Compliant; Category: Integrated Circuits (ICs); Stock 1: 18339; Pricing 1: 1=0.98, 10=0.855, 25=0.7556, 100=0.6586, 250=0.57328, 500=0.48802, 1000=0.39089 (USD); Packaging: Cut Tape (CT); Part Status: Active; Current - Limit (Min): -; Operating Temperature: -40°C ~ 125°C; Mounting Type: Surface Mount; Package / Case: 8-VFDFN Exposed Pad; Supplier Device Package: 8-DFN (2x3); ComponentLink1URL: https://www.exar.com/content/document.ashx?id=615; ComponentLink1Description: https://www.exar.com/content/document.ashx?id=615; Supplier Part Number 1: 1016-1588-1-ND
footprint SPX3819R2-L/TR
pins: 1 EN (in), 2 NC, 3 VIN (in), 4 NC, 5 VOUT (out), 6 NC, 7 GND, 8 ADJ/BYP (in), 9 PAD

## SRK1000_switching_controller
designator IC?, comment SRK1000
Manufacturer: STMicroelectronics; Part Description: Switching Controllers Adaptive synchronous rectification controller for flyback converter; Operating Supply Current: 17mA; Supplier 1: Mouser; Supplier Part Number 1: 511-SRK1000; Manufacturer Part Number 1: SRK1000; Stock 1: 1537; Pricing 1: 1=0,93000, 10=0,83300, 50=0,79000, 100=0,64900, 1000=0,42600, 10000=0,42500 (USD); RoHS: Yes; Mount: Surface Mount; Case/Package: SOT-23-6; Min Operating Temperature: -40°C; Max Operating Temperature: 150°C; Packaging: Tape and Reel; RoHS Compliant: Yes
footprint SOT23-6
pins: 1 VCC (power), 2 GND (power), 3 GD (out), 4 TON, 5 VAUX, 6 DVS

## SRSC-4-63+
designator IC?
Power Splitter/Combiner: 4 Way-0° Resistive 50Ω DC to 6000 MHz; Manufacturer: Mini-Circuits; Part Description: Power Splitter/Combiner: 4 Way-0° Resistive 50Ω DC to 6000 MHz; Supplier 1: Mini-Circuits; Manufacturer Part Number 1: SRSC-4-63+; Supplier Part Number 1: SRSC-4-63+
footprint SRSC-4-63+_CK1704-2
pins: 1 PORT 1, 2 PORT 2, 3 PORT 3, 4 PORT 4, 5 GND, 6 GND, 7 GND, 8 GND, 9 GND, 10 SUM, 11 GND, 12 GND, 13 GND, 14 GND, 15 GND, 16 GND

## SRV05-4HTG
designator IC?
Manufacturer: Littelfuse Inc; Voltage - Reverse Standoff (Typ): 6V (Max); Voltage - Clamping (Max) @ Ipp: 15V; Current - Peak Pulse (10/1000µs): 10A (8/20µs); Supplier 1: Digi-Key; Category: Circuit Protection; Package / Case: SOT-23-6; Supplier Part Number 1: F4204TR-ND
footprint SOT23-6
pins: 1 I/O1, 2 GND, 3 I/O2, 4 I/O3, 5 VCC, 6 I/O4

## SS-60000-008_ETHERNET_JACK_RJ45_VERTICAL
designator J?, comment RJ45 CAT6
Modular Jack | CAT6 | Vertical _180_ | 8P 8C | NF Shielded; Part Description: Jack Modular Connector 8p8c (RJ45, Ethernet) Vertical Shielded Cat6; Manufacturer: Bel; Manufacturer Part Number 1: SS-60000-008; Connector Type: Jack,Socket,RJ45; Number of Ports: 1; Direction: User Selectable; Number of Contacts: 8; Gender: Female; Pitch: 2.03mm; Value: *; Supplier 1: Digi-Key; Supplier Part Number 1: 380-1095-ND; Stock 1: 3380; Pricing 1: 1=3,33000, 10=3,19400, 25=2,92840, 50=2,79520, 100=2,66200, 250=2,32924, 500=2,26270, 1000=1,92995, 2500=1,79685 (USD); RoHS: Yes; Mount: Through Hole,Cable; Contact Material: Copper Alloy; Housing Material: Thermoplastic; Contact Plating: Gold; Material: Thermoplastic; Termination: Solder; Packaging: Tray; Package Quantity: 80; Number of Rows: 1; Shielding: Shielded; Orientation: Straight; Number of Positions: 8; Length: 17.02mm; Width: 16.26mm; Depth: 17.02mm; Lead Free: Lead Free; Flammability Rating: UL94 V-0; REACH SVHC: No SVHC; ComponentLink1URL: https://datasheet.ciiva.com/685/ct600008-685714.pdf?src-supplier=Avnet; ComponentLink1Description: https://datasheet.ciiva.com/685/ct600008-685714.pdf?src-supplier=Avnet; ComponentLink2URL: https://datasheet.ciiva.com/685/ct600008-685714.pdf?src-supplier=Digi-Key; ComponentLink2Description: https://datasheet.ciiva.com/685/ct600008-685714.pdf?src-supplier=Digi-Key; ComponentLink3URL: https://datasheet.ciiva.com/1478/34920-1478385.pdf?src-supplier=Newark; ComponentLink3Description: https://datasheet.ciiva.com/1478/34920-1478385.pdf?src-supplier=Newark; ComponentLink4URL: https://datasheet.ciiva.com/11726/0900766b80b1ed76-11726134.pdf?src-supplier=RSComponents; ComponentLink4Description: https://datasheet.ciiva.com/11726/0900766b80b1ed76-11726134.pdf?src-supplier=RSComponents; ComponentLink5URL: https://datasheet.ciiva.com/14118/ss-60000-008-eng-tds-14118902.pdf?src-supplier=Distrelec; ComponentLink5Description: https://datasheet.ciiva.com/14118/ss-60000-008-eng-tds-14118902.pdf?src-supplier=Distrelec
footprint SS-60000-008_RJ45
pins: 1, 2, 3, 4, 5, 6, 7, 8, S1 P$1, S2 P$2

## STANDOFF_M-F_THREADED_M3x8x10mm_HEX_5mm dia
designator MECH?, comment # pcs.
STANDOFF M/F MET 5MM HEX 10MM L; Manufacturer 1: Keystone Electronics; Manufacturer Part Number 1: 24313; Thread/Screw/Hole Size: M3 Thread; Plating: Nickel; Between Board Height: 0.394" (10.0mm); SCDType: undef; RoHS: RoHS Compliant; Description 1: STANDOFF M/F MET 5MM HEX 10MM L; Category: Hardware Fasteners Accessories; Stock 1: 240; Pricing 1: 10=0.969, 100=0.881, 500=0.58, 1000=0.3685, 2500=0.34215 (USD); Type: Hex Threaded, Male/Female; Size: 0.197" (5.0mm) Hex; Length - Overall: 0.709" (18.0mm); Material: Brass; Color: Natural; ComponentLink1URL: http://www.keyelco.com/pdfs/M55p67.pdf; ComponentLink1Description: http://www.keyelco.com/pdfs/M55p67.pdf; Supplier 1: Digi-Key; Supplier Part Number 1: 24313K-ND
footprint PCB_standoff
pins: MH1

## STD5N20LT4_NMOS
designator VT?, comment STD5N20LT4
Manufacturer: STMicroelectronics; Part Description: N-Channel 200V 5A (Tc) 33W (Tc) Surface Mount DPAK; Nominal Vgs: 2.5V; Rise Time: 21.5ns; Rds On Max: 700mR; Input Capacitance: 242pF; Number of Elements: 1; Max Power Dissipation: 33W; Dual Supply Voltage: 200V; Continuous Drain Current (ID): 5A; Fall Time: 15.5ns; Drain to Source Resistance: 650mR; Turn-Off Delay Time: 14ns; Turn-On Delay Time: 11.5ns; Element Configuration: Single; Gate to Source Voltage (Vgs): 20V; Supplier 1: Digi-Key; Manufacturer Part Number 1: STD5N20LT4; Stock 1: 3027; Pricing 1: 1=1.17, 10=1.033, 100=0.8161, 500=0.6329, 1000=0.49965 (USD); Mount: Surface Mount; Case/Package: DPAK; Number of Pins: 3; Min Operating Temperature: -55°C; Max Operating Temperature: 150°C; Packaging: Tape and Reel; Package Quantity: 2500; Drain to Source Voltage (Vdss): 200V; Drain to Source Breakdown Voltage: 200V; Power Dissipation: 33W; On-State Resistance: 700mR; Threshold Voltage: 2.5V; Termination: SMD/SMT; Voltage Rating (DC): 200V; Current Rating: 5A; Length: 6.6mm; Height: 2.4mm; Width: 6.2mm; Radiation Hardening: No; REACH SVHC: No SVHC; Lead Free: Lead Free; ComponentLink1URL: http://www.farnell.com/datasheets/1689960.pdf; ComponentLink1Description: http://www.farnell.com/datasheets/1689960.pdf; ComponentLink2URL: http://www.st.com/content/ccc/resource/technical/document/datasheet/group2/51/4c/d5/e5/c6/ef/43/17/CD00043538/files/CD00043538.pdf/jcr:content/translations/en.CD00043538.pdf; ComponentLink2Description: http://www.st.com/content/ccc/resource/technical/document/datasheet/group2/51/4c/d5/e5/c6/ef/43/17/CD00043538/files/CD00043538.pdf/jcr:content/translations/en.CD00043538.pdf; ComponentLink3URL: http://www.st.com/web/en/resource/technical/document/datasheet/CD00043538.pdf; ComponentLink3Description: http://www.st.com/web/en/resource/technical/document/datasheet/CD00043538.pdf; Supplier Part Number 1: 497-4335-6-ND
footprint STD5N20LT4_NMOS_DPAK (D-PAK/TO-263-3; 3 Leads (1 Cropped); Body 14.7 (inc. leads) x 10.2 mm (LxW max))
pins: 1 G, 3 S, 4 D

## STM32F103RBT6
designator U?
ARM Cortex-M3 32-bit MCU, 128 KB Flash, 20 KB Internal RAM, 51 I/Os, 64-pin LQFP, -40 to 85 degC, Tray; PartNumber: STM32F103RBT6; A/D Converter: 2x12-bit (16 Channel); FLASH Size (Prog) (kB): 128; I/Os (High Current): 51; Internal RAM Size (kB): 20; Operating Frequency(F) (Processor speed) (MHz): 72; Supply Voltage(Vcc) min (V): 2; DatasheetVersion: Rev. 16; PackageVersion: Rev. 4, 06/2013; PackageReference: LQFP64; PackageDescription: 64-Pin Low Profile Quad Flat Package, 10 x 10 mm Body, 0.5 mm Pitch; Supplier 1: Digi-Key; Supplier Part Number 1: 497-6066-ND; Supplier 2: Farnell; Supplier Part Number 2: 1447640; Supplier 3: Newark; Supplier Part Number 3: 59M2183; Supplier 4: Newark; Supplier Part Number 4: 57P1224; Supplier 5: Mouser; Supplier Part Number 5: 511-STM32F103RBT6; Core: ARM Cortex-M3; Packing: Tray; Mounting Technology: Surface Mount; ComponentLink1Description: Manufacturer URL; ComponentLink1URL: http://www.st.com/web/en/home.html; ComponentLink2Description: Datasheet; ComponentLink2URL: http://www.st.com/st-web-ui/static/active/en/resource/technical/document/datasheet/CD00161566.pdf; ComponentLink3Description: Package Specification; ComponentLink3URL: http://www.st.com/st-web-ui/static/active/en/resource/technical/document/datasheet/DM00037051.pdf
footprint STM-LQFP64_N (Thin QFP, 64-Leads, Body 10x10mm, Pitch 0.5mm, IPC Medium Density)
part A pins: 2 PC13-TAMPER-RTC (io) "PC13-TAMPER-RTC/PC13/TAMPER-RTC", 3 PC14-OSC32_IN (io) "PC14-OSC32_IN/PC14/OSC32_IN", 4 PC15-OSC32_OUT (io) "PC15-OSC32_OUT/PC15/OSC32_OUT", 5 PD0-OSC_IN (io) "PD0/OSC_IN", 6 PD1-OSC_OUT (io) "PD1/OSC_OUT", 7 NRST (io), 8 PC0 (io) "PC0/ADC12_IN10", 9 PC1 (io) "PC1/ADC12_IN11", 10 PC2 (io) "PC2/ADC12_IN12", 11 PC3 (io) "PC3/ADC12_IN13", 14 PA0-WKUP (io) "PA0-WKUP/PA0/WKUP/USART2_CTS/ADC12_IN0/TIM2_CH1_ETR", 15 PA1 (io) "PA1/USART2_RTS/ADC12_IN1/TIM2_CH2", 16 PA2 (io) "PA2/USART2_TX/ADC12_IN2/TIM2_CH3", 17 PA3 (io) "PA3/USART2_RX/ADC12_IN3/TIM2_CH4", 20 PA4 (io) "PA4/SPI1_NSS/USART2_CK/ADC12_IN4", 21 PA5 (io) "PA5/SPI1_SCK/ADC12_IN5", 22 PA6 (io) "PA6/SPI1_MISO/ADC12_IN6/TIM3_CH1/TIM1_BKIN", 23 PA7 (io) "PA7/SPI1_MOSI/ADC12_IN7/TIM3_CH2/TIM1_CH1N", 24 PC4 (io) "PC4/ADC12_IN14", 25 PC5 (io) "PC5/ADC12_IN15", 26 PB0 (io) "PB0/ADC12_IN8/TIM3_CH3/TIM1_CH2N", 27 PB1 (io) "PB1/ADC12_IN9/TIM3_CH4/TIM1_CH3N", 28 PB2 (io) "PB2/BOOT1", 29 PB10 (io) "PB10/I2C2_SCL/USART3_TX/TIM2_CH3", 30 PB11 (io) "PB11/I2C2_SDA/USART3_RX/TIM2_CH4", 33 PB12 (io) "PB12/SPI2_NSS/I2C2_SMBAl/USART3_CK/TIM1_BKIN", 34 PB13 (io) "PB13/SPI2_SCK/USART3_CTS/TIM1_CH1N", 35 PB14 (io) "PB14/SPI2_MISO/USART3_RTS/TIM1_CH2N", 36 PB15 (io) "PB15/SPI2_MOSI/TIM1_CH3N", 37 PC6 (io) "PC6/TIM3_CH1", 38 PC7 (io) "PC7/TIM3_CH2", 39 PC8 (io) "PC8/TIM3_CH3", 40 PC9 (io) "PC9/TIM3_CH4", 41 PA8 (io) "PA8/USART1_CK/TIM1_CH1/MCO", 42 PA9 (io) "PA9/USART1_TX/TIM1_CH2", 43 PA10 (io) "PA10/USART1_RX/TIM1_CH3", 44 PA11 (io) "PA11/USART1_CTS/CANRX/USBDM/TIM1_CH4", 45 PA12 (io) "PA12/USART1_RTS/CANTX/USBDP/TIM1_ETR", 46 PA13 (io) "PA13/JTMS/SWDIO", 49 PA14 (io) "PA14/JTCK/SWCLK", 50 PA15 (io) "PA15/JTDI/TIM2_CH1_ETR/SPI1_NSS", 51 PC10 (io) "PC10/USART3_TX", 52 PC11 (io) "PC11/USART3_RX", 53 PC12 (io) "PC12/USART3_CK", 54 PD2 (io) "PD2/TIM3_ETR", 55 PB3 (io) "PB3/JTDO/TIM2_CH2/TRACESWO/SPI1_SCK", 56 PB4 (io) "PB4/NJTRST/TIM3_CH1/SPI1_MISO", 57 PB5 (io) "PB5/I2C1_SMBAI/TIM3_CH2/SPI1_MOSI", 58 PB6 (io) "PB6/I2C1_SCL/TIM4_CH1/USART1_TX", 59 PB7 (io) "PB7/I2C1_SDA/TIM4_CH2/USART1_RX", 60 BOOT0 (in), 61 PB8 (io) "PB8/TIM4_CH3/I2C1_SCL/CANRX", 62 PB9 (io) "PB9/TIM4_CH4/I2C1_SDA/CANTX"
part B pins: 1 VBAT (power), 12 VSSA (power), 13 VDDA (power), 18 VSS_4 (power), 19 VDD_4 (power), 31 VSS_1 (power), 32 VDD_1 (power), 47 VSS_2 (power), 48 VDD_2 (power), 63 VSS_3 (power), 64 VDD_3 (power)

## STM32F105RBT6
designator U?
ARM Cortex-M3 32-bit MCU, 128 KB Flash, 64 KB Internal RAM, 51 I/Os, 64-pin LQFP, -40 to 85 degC, Tray; PartNumber: STM32F105RBT6; A/D Converter: 2x12-bit (16 Channel); D/A Converter: 2x12-bit (2 Channel); FLASH Size (Prog) (kB): 128; I/Os (High Current): 51; Internal RAM Size (kB): 64; Operating Frequency(F) (Processor speed) (MHz): 72; Supply Voltage(Vcc) min (V): 2; DatasheetVersion: Rev. 6; PackageVersion: Rev. 4, 06/2013; PackageReference: LQFP64; PackageDescription: 64-Pin Low Profile Quad Flat Package, 10 x 10 mm Body, 0.5 mm Pitch; Supplier 1: Digi-Key; Supplier Part Number 1: 497-8920-ND; Supplier 2: Farnell; Supplier Part Number 2: 1737133; Supplier 3: Newark; Supplier Part Number 3: 52R2326; Supplier 4: Newark; Supplier Part Number 4: 25R9437; Supplier 5: Mouser; Supplier Part Number 5: 511-STM32F105RBT6; Core: ARM Cortex-M3; Packing: Tray; Mounting Technology: Surface Mount; ComponentLink1Description: Manufacturer URL; ComponentLink1URL: http://www.st.com/web/en/home.html; ComponentLink2Description: Datasheet; ComponentLink2URL: http://www.st.com/st-web-ui/static/active/en/resource/technical/document/datasheet/CD00220364.pdf; ComponentLink3Description: Package Specification; ComponentLink3URL: http://www.st.com/st-web-ui/static/active/en/resource/technical/document/datasheet/DM00037051.pdf
footprint STM-LQFP64_N (Thin QFP, 64-Leads, Body 10x10mm, Pitch 0.5mm, IPC Medium Density)
part A pins: 2 PC13-TAMPER-RTC (io) "PC13-TAMPER-RTC/PC13/TAMPER-RTC", 3 PC14-OSC32_IN (io) "PC14-OSC32_IN/PC14/OSC32_IN", 4 PC15-OSC32_OUT (io) "PC15-OSC32_OUT/PC15/OSC32_OUT", 5 PD0-OSC_IN (io) "PD0/OSC_IN", 6 PD1-OSC_OUT (io) "PD1/OSC_OUT", 7 NRST (io), 8 PC0 (io) "PC0/ADC12_IN10", 9 PC1 (io) "PC1/ADC12_IN11/ETH_MII_MDC/ETH_RMII_MDC", 10 PC2 (io) "PC2/ADC12_IN12/ETH_MII_TXD2", 11 PC3 (io) "PC3/ADC12_IN13/ETH_MII_TX_CLK", 14 PA0-WKUP (io) "PA0-WKUP/PA0/WKUP/USART2_CTS/ADC12_IN0/TIM2_CH1_ETR/TIM5_CH1/ETH_MII_CRS_WKUP", 15 PA1 (io) "PA1/USART2_RTS/ADC12_IN1/TIM5_CH2/TIM2_CH2/ETH_MII_RX_CLK/ETH_RMII_REF_CLK", 16 PA2 (io) "PA2/USART2_TX/TIM5_CH3/ADC12_IN2/TIM2_CH3/ETH_MII_MDIO/ETH_RMII_MDIO", 17 PA3 (io) "PA3/USART2_RX/TIM5_CH4/ADC12_IN3/TIM2_CH4/ETH_MII_COL", 20 PA4 (io) "PA4/SPI1_NSS/DAC_OUT1/USART2_CK/ADC12_IN4/SPI3_NSS/I2S3_WS", 21 PA5 (io) "PA5/SPI1_SCK/DAC_OUT2/ADC12_IN5", 22 PA6 (io) "PA6/SPI1_MISO/ADC12_IN6/TIM3_CH1/TIM1_BKIN", 23 PA7 (io) "PA7/SPI1_MOSI/ADC12_IN7/TIM3_CH2/ETH_MII_RX_DV/ETH_RMII_CRS_DV/TIM1_CH1N", 24 PC4 (io) "PC4/ADC12_IN14/ETH_MII_RXD0/ETH_RMII_RXD0", 25 PC5 (io) "PC5/ADC12_IN15/ETH_MII_RXD1/ETH_RMII_RXD1", 26 PB0 (io) "PB0/ADC12_IN8/TIM3_CH3/ETH_MII_RXD2/TIM1_CH2N", 27 PB1 (io) "PB1/ADC12_IN9/TIM3_CH4/ETH_MII_RXD3/TIM1_CH3N", 28 PB2 (io) "PB2/BOOT1", 29 PB10 (io) "PB10/I2C2_SCL/USART3_TX/ETH_MII_RX_ER/TIM2_CH3", 30 PB11 (io) "PB11/I2C2_SDA/USART3_RX/ETH_MII_TX_EN/ETH_RMII_TX_EN/TIM2_CH4", 33 PB12 (io) "PB12/SPI2_NSS/I2S2_WS/I2C2_SMBA/USART3_CK/TIM1_BKIN/CAN2_RX/ETH_MII_TXD0/ETH_RMII_TXD0", 34 PB13 (io) "PB13/SPI2_SCK/I2S2_CK/USART3_CTS/TIM1_CH1N/CAN2_TX/ETH_MII_TXD1/ETH_RMII_TXD1", 35 PB14 (io) "PB14/SPI2_MISO/TIM1_CH2N/USART3_RTS", 36 PB15 (io) "PB15/SPI2_MOSI/I2S2_SD/TIM1_CH3N", 37 PC6 (io) "PC6/I2S2_MCK/TIM3_CH1", 38 PC7 (io) "PC7/I2S3_MCK/TIM3_CH2", 39 PC8 (io) "PC8/TIM3_CH3", 40 PC9 (io) "PC9/TIM3_CH4", 41 PA8 (io) "PA8/USART1_CK/OTG_FS_SOF/TIM1_CH1/MCO", 42 PA9 (io) "PA9/USART1_TX/TIM1_CH2/OTG_FS_VBUS", 43 PA10 (io) "PA10/USART1_RX/TIM1_CH3/OTG_FS_ID", 44 PA11 (io) "PA11/USART1_CTS/CAN1_RX/TIM1_CH4/OTG_FS_DM", 45 PA12 (io) "PA12/USART1_RTS/OTG_FS_DP/CAN1_TX/TIM1_ETR", 46 PA13 (io) "PA13/JTMS-SWDIO", 49 PA14 (io) "PA14/JTCK-SWCLK", 50 PA15 (io) "PA15/JTDI/SPI3_NSS/I2S3_WS/TIM2_CH1_ETR/SPI1_NSS", 51 PC10 (io) "PC10/UART4_TX/USART3_TX/SPI3_SCK/I2S3_CK", 52 PC11 (io) "PC11/UART4_RX/USART3_RX/SPI3_MISO", 53 PC12 (io) "PC12/UART5_TX/USART3_CK/SPI3_MOSI/I2S3_SD", 54 PD2 (io) "PD2/TIM3_ETR/UART5_RX", 55 PB3 (io) "PB3/JTDO/SPI3_SCK/I2S3_CK/TRACESWO/TIM2_CH2/SPI1_SCK", 56 PB4 (io) "PB4/NJTRST/SPI3_MISO/TIM3_CH1/SPI1_MISO", 57 PB5 (io) "PB5/I2C1_SMBA/SPI3_MOSI/ETH_MII_PPS_OUT/I2S3_SD/ETH_RMII_PPS_OUT/TIM3_CH2/SPI1_MOSI/CAN2_RX", 58 PB6 (io) "PB6/I2C1_SCL/TIM4_CH1/USART1_TX/CAN2_TX", 59 PB7 (io) "PB7/I2C1_SDA/TIM4_CH2/USART1_RX", 60 BOOT0 (in), 61 PB8 (io) "PB8/TIM4_CH3/ETH_MII_TXD3/I2C1_SCL/CAN1_RX", 62 PB9 (io) "PB9/TIM4_CH4/I2C1_SDA/CAN1_TX"
part B pins: 1 VBAT (power), 12 VSSA (power), 13 VDDA (power), 18 VSS_4 (power), 19 VDD_4 (power), 31 VSS_1 (power), 32 VDD_1 (power), 47 VSS_2 (power), 48 VDD_2 (power), 63 VSS_3 (power), 64 VDD_3 (power)

## STPS1H100A_shottky_diode
designator D?, comment STPS1H100A
Part Description: Diode Schottky 100V 1A Surface Mount SMA (DO-214AC); Manufacturer: STMicroelectronics; Forward Current: 1A; Max Surge Current: 50A; Forward Voltage: 620mV; Peak Reverse Current: 4uA; Max Repetitive Reverse Voltage (Vrrm): 100V; Element Configuration: Single; Polarity: Standard; Supplier 1: Digi-Key; Manufacturer Part Number 1: STPS1H100A; Stock 1: 171196; Pricing 1: 1=0.46, 10=0.397, 100=0.2965, 500=0.23294, 1000=0.18 (USD); Mount: Surface Mount; Case/Package: SMA; Number of Pins: 2; Weight: 0.01lb; Contact Plating: Matte,Tin; Min Operating Temperature: -65°C; Max Operating Temperature: 175°C; Package Quantity: 1; Packaging: Tape and Reel; Average Rectified Current: 1A; Max Reverse Leakage Current: 4uA; Max Forward Surge Current (Ifsm): 50A; Peak Non-Repetitive Surge Current: 50A; Termination: SMD/SMT; Voltage Rating (DC): 100V; Output Current: 1A; Current Rating: 1A; Max Reverse Voltage (DC): 100V; Length: 4.6mm; Height: 2.03mm; Width: 2.95mm; Radiation Hardening: No; REACH SVHC: No SVHC; Lead Free: Lead Free; ComponentLink1URL: https://www.distrelec.biz/Web/Downloads/13/04/CD00001304.pdf?mime=application%2Fpdf; ComponentLink1Description: https://www.distrelec.biz/Web/Downloads/13/04/CD00001304.pdf?mime=application%2Fpdf; ComponentLink2URL: http://www.st.com/content/ccc/resource/technical/document/datasheet/e8/3c/6a/07/72/b0/40/88/CD00001304.pdf/files/CD00001304.pdf/jcr:content/translations/en.CD00001304.pdf; ComponentLink2Description: http://www.st.com/content/ccc/resource/technical/document/datasheet/e8/3c/6a/07/72/b0/40/88/CD00001304.pdf/files/CD00001304.pdf/jcr:content/translations/en.CD00001304.pdf; ComponentLink3URL: http://www.farnell.com/datasheets/1690209.pdf; ComponentLink3Description: http://www.farnell.com/datasheets/1690209.pdf; Supplier Part Number 1: 497-3209-6-ND
footprint STPS1H100A_shottky_diode
pins: A, C

## STPS15L30C_shottky_rectifier
designator VD?, comment STPS15L30C
Part Description: Diode Array 1 Pair Common Cathode Schottky 30V 7.5A Surface Mount TO-252-3, DPak (2 Leads + Tab), SC-63; Manufacturer: STMicroelectronics; Manufacturer Part Number 1: STPS15L30CB-TR; Element Configuration: Common Cathode; Forward Current: 15A; Peak Reverse Current: 1mA; Forward Voltage: 570mV; Average Rectified Current: 7.5A; Max Repetitive Reverse Voltage (Vrrm): 30V; Max Forward Surge Current (Ifsm): 75A; Supplier 1: Digi-Key; Stock 1: 5072; Pricing 1: 1=1.48, 10=1.327, 100=1.0343, 500=0.8544, 1000=0.67453 (USD); Mount: Surface Mount; Case/Package: DPAK; Number of Pins: 3; Contact Plating: Matte,Tin; Min Operating Temperature: -65°C; Max Operating Temperature: 150°C; Package Quantity: 2500; Packaging: Tape and Reel; Peak Non-Repetitive Surge Current: 75A; Current Rating: 15A; Voltage Rating (DC): 30V; Max Reverse Voltage (DC): 30V; Radiation Hardening: No; Lead Free: Lead Free; ComponentLink1URL: http://www.st.com/content/ccc/resource/technical/document/datasheet/1f/cc/d5/79/c8/b2/47/15/CD00002832.pdf/files/CD00002832.pdf/jcr:content/translations/en.CD00002832.pdf; ComponentLink1Description: http://www.st.com/content/ccc/resource/technical/document/datasheet/1f/cc/d5/79/c8/b2/47/15/CD00002832.pdf/files/CD00002832.pdf/jcr:content/translations/en.CD00002832.pdf; ComponentLink2URL: http://www.mouser.com/ds/2/389/stps15l30c-956623.pdf; ComponentLink2Description: http://www.mouser.com/ds/2/389/stps15l30c-956623.pdf; Supplier Part Number 1: 497-6574-6-ND
footprint STPS15L30C_shottky_rectifier_DPAK (D-PAK/TO-263-3; 3 Leads (1 Cropped); Body 14.7 (inc. leads) x 10.2 mm (LxW max))
pins: 1 A1, 3 A2, 4 C

## STS10N3LH5_NMOS
designator VT?, comment STS10N3LH5
Part Description: N-Channel 30V 10A (Tc) 2.5W (Tc) Surface Mount 8-SO; Manufacturer: STMicroelectronics; Rds On Max: 21mR; Input Capacitance: 475pF; Rise Time: 22ns; Drain to Source Voltage (Vdss): 30V; Continuous Drain Current (ID): 10A; Max Power Dissipation: 2.5W; Turn-On Delay Time: 4ns; Turn-Off Delay Time: 13ns; Fall Time: 2.8ns; Gate to Source Voltage (Vgs): 22V; ComponentLink1URL: http://www.st.com/web/en/resource/technical/document/datasheet/CD00103832.pdf; ComponentLink1Description: http://www.st.com/web/en/resource/technical/document/datasheet/CD00103832.pdf; ComponentLink2URL: http://www.st.com/content/ccc/resource/technical/document/datasheet/00/75/48/c3/62/90/4a/32/CD00103832.pdf/files/CD00103832.pdf/jcr:content/translations/en.CD00103832.pdf; ComponentLink2Description: http://www.st.com/content/ccc/resource/technical/document/datasheet/00/75/48/c3/62/90/4a/32/CD00103832.pdf/files/CD00103832.pdf/jcr:content/translations/en.CD00103832.pdf; ComponentLink3URL: http://www.mouser.com/ds/2/389/CD00103832-114014.pdf; ComponentLink3Description: http://www.mouser.com/ds/2/389/CD00103832-114014.pdf; Supplier 1: Digi-Key; Manufacturer Part Number: STS10N3LH5; Stock 1: 4194; Pricing 1: 1=1.38, 10=1.219, 100=0.9632, 500=0.74698, 1000=0.58973 (USD); Mount: Surface Mount; Case/Package: SOIC; Number of Pins: 8; Min Operating Temperature: -55°C; Max Operating Temperature: 150°C; Package Quantity: 2500; Packaging: Tape and Reel; Radiation Hardening: No; Lead Free: Lead Free; ComponentLink4URL: http://www.st.com/web/en/resource/technical/document/datasheet/CD00232229.pdf; ComponentLink4Description: http://www.st.com/web/en/resource/technical/document/datasheet/CD00232229.pdf; ComponentLink5URL: http://www.st.com/content/ccc/resource/technical/document/datasheet/53/fc/cf/05/f9/85/43/7e/CD00232229.pdf/files/CD00232229.pdf/jcr:content/translations/en.CD00232229.pdf; ComponentLink5Description: http://www.st.com/content/ccc/resource/technical/document/datasheet/53/fc/cf/05/f9/85/43/7e/CD00232229.pdf/files/CD00232229.pdf/jcr:content/translations/en.CD00232229.pdf; Supplier Part Number 1: 497-10010-1-ND
footprint STS10P3LLH6_PMOS_SO8 (SOIC, 8-Leads, Body 4,90x3,90mm, Pitch 1,27mm, IPC Medium Density)
pins: 1 S, 2 S, 3 S, 4 G, 5 D, 6 D, 7 D, 8 D